# Altium schematic symbol library Silicon Labs.SchLib: 10 symbols
Pins are listed as number, name and electrical type; pins without a type are passive.

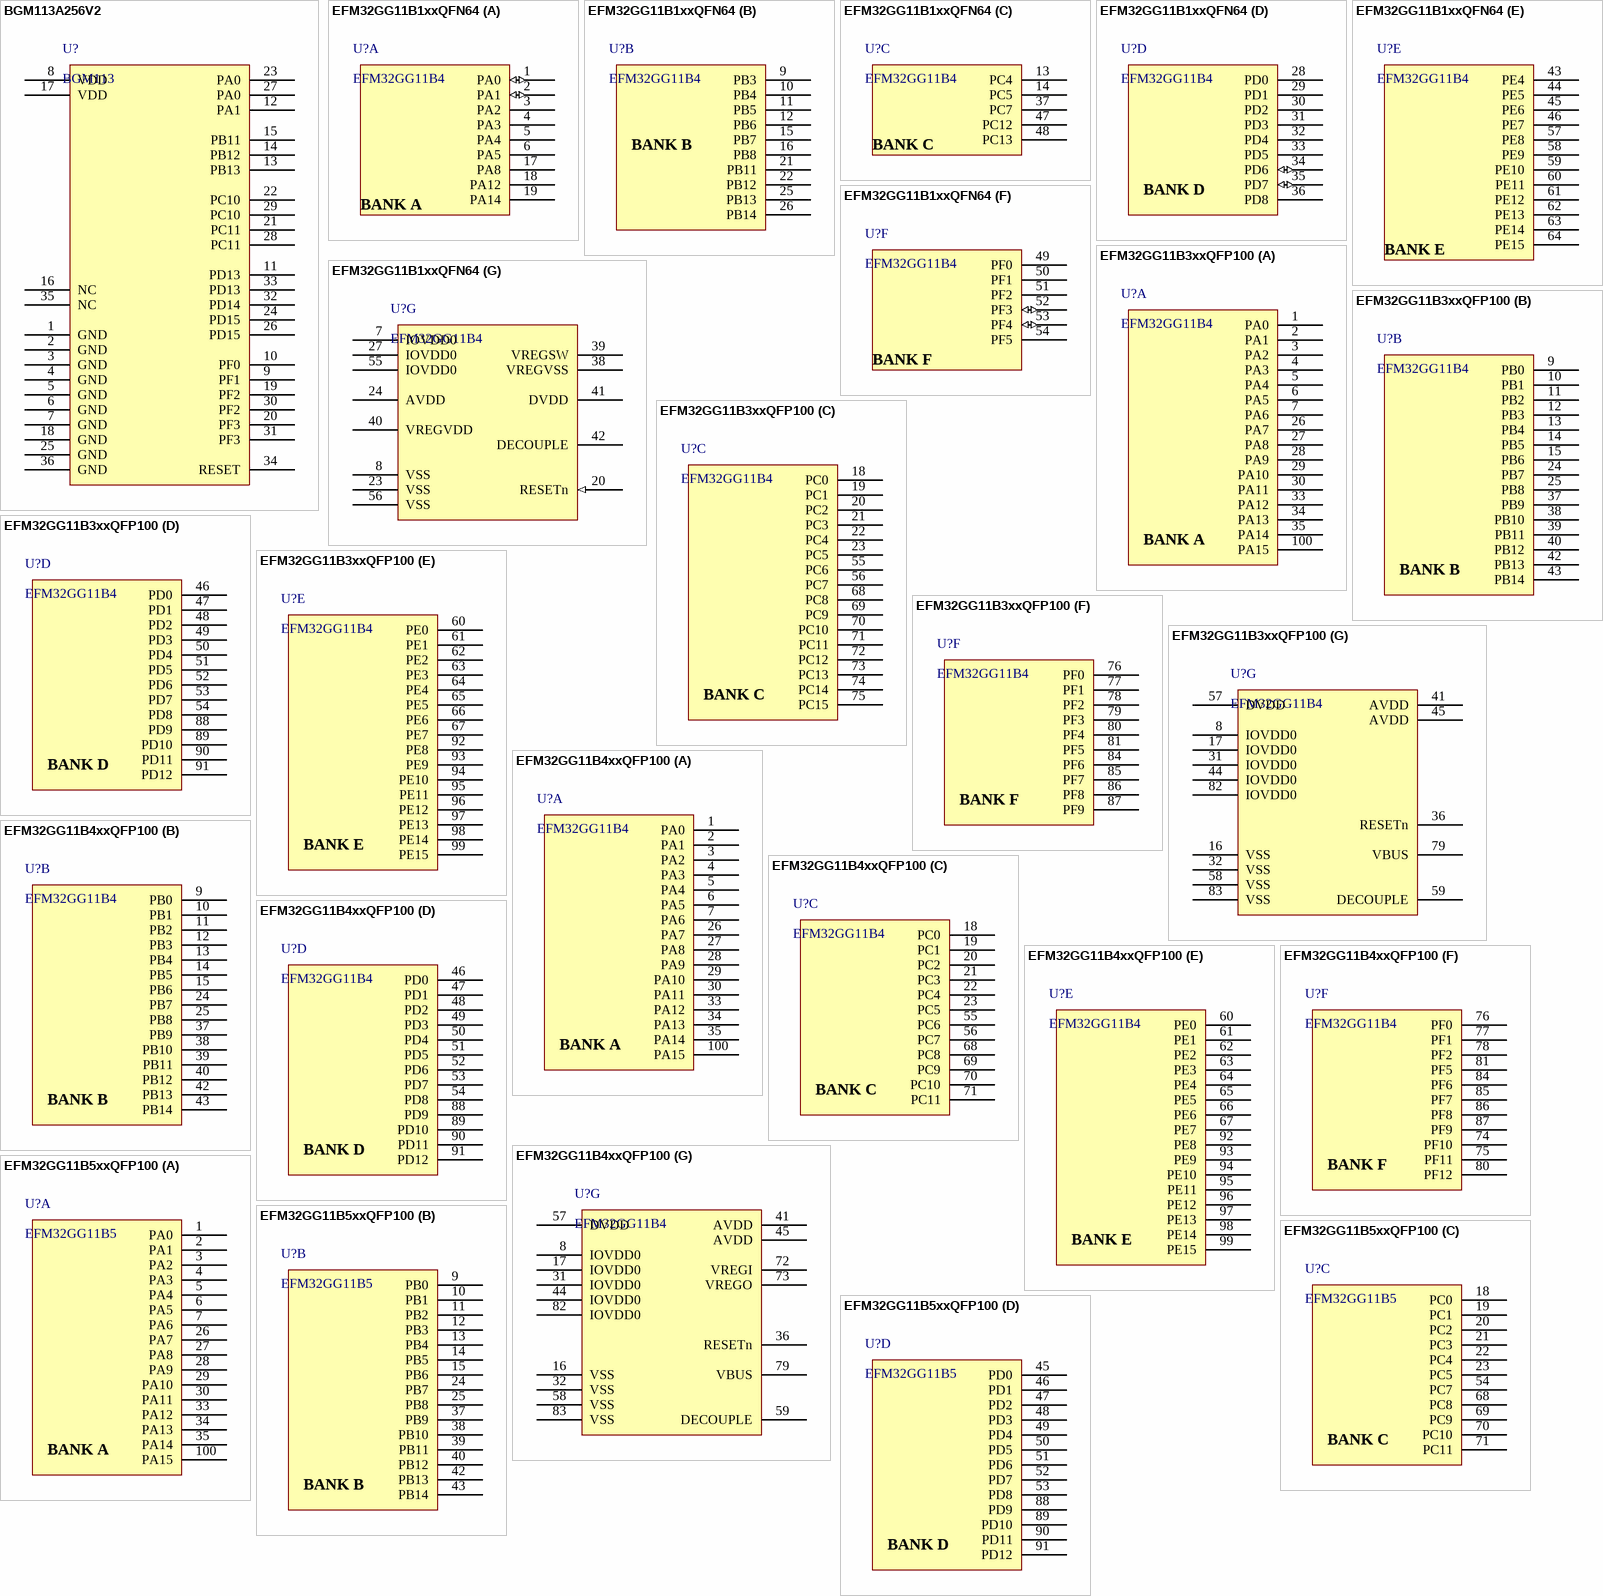
[diagram p0: symbols BGM113A256V2 to EFM32GG11B5xxQFP100]

## BGM113A256V2
designator U?, comment BGM113
pins: 1 GND, 2 GND, 3 GND, 4 GND, 5 GND, 6 GND, 7 GND, 8 VDD, 9 PF1, 10 PF0, 11 PD13, 12 PA1, 13 PB13, 14 PB12, 15 PB11, 16 NC, 17 VDD, 18 GND, 19 PF2, 20 PF3, 21 PC11, 22 PC10, 23 PA0, 24 PD15, 25 GND, 26 PD15, 27 PA0, 28 PC11, 29 PC10, 30 PF2, 31 PF3, 32 PD14, 33 PD13, 34 RESET, 35 NC, 36 GND

## EFM32GG11B1xxQFN64
designator U?, comment EFM32GG11B4
part A pins: 1 PA0 (io), 2 PA1 (io), 3 PA2, 4 PA3, 5 PA4, 6 PA5, 17 PA8, 18 PA12, 19 PA14
part B pins: 9 PB3, 10 PB4, 11 PB5, 12 PB6, 15 PB7, 16 PB8, 21 PB11, 22 PB12, 25 PB13, 26 PB14
part C pins: 13 PC4, 14 PC5, 37 PC7, 47 PC12, 48 PC13
part D pins: 28 PD0, 29 PD1, 30 PD2, 31 PD3, 32 PD4, 33 PD5, 34 PD6 (io), 35 PD7 (io), 36 PD8
part E pins: 43 PE4, 44 PE5, 45 PE6, 46 PE7, 57 PE8, 58 PE9, 59 PE10, 60 PE11, 61 PE12, 62 PE13, 63 PE14, 64 PE15
part F pins: 49 PF0, 50 PF1, 51 PF2, 52 PF3 (io), 53 PF4 (io), 54 PF5
part G pins: 7 IOVDD0, 8 VSS, 20 RESETn (in), 23 VSS, 24 AVDD, 27 IOVDD0, 38 VREGVSS, 39 VREGSW, 40 VREGVDD, 41 DVDD, 42 DECOUPLE, 55 IOVDD0, 56 VSS
part A text: BANK A
part B text: BANK B
part C text: BANK C
part D text: BANK D
part E text: BANK E
part F text: BANK F

## EFM32GG11B3xxQFP100
designator U?, comment EFM32GG11B4
part A pins: 1 PA0, 2 PA1, 3 PA2, 4 PA3, 5 PA4, 6 PA5, 7 PA6, 26 PA7, 27 PA8, 28 PA9, 29 PA10, 30 PA11, 33 PA12, 34 PA13, 35 PA14, 100 PA15
part B pins: 9 PB0, 10 PB1, 11 PB2, 12 PB3, 13 PB4, 14 PB5, 15 PB6, 24 PB7, 25 PB8, 37 PB9, 38 PB10, 39 PB11, 40 PB12, 42 PB13, 43 PB14
part C pins: 18 PC0, 19 PC1, 20 PC2, 21 PC3, 22 PC4, 23 PC5, 55 PC6, 56 PC7, 68 PC8, 69 PC9, 70 PC10, 71 PC11, 72 PC12, 73 PC13, 74 PC14, 75 PC15
part D pins: 46 PD0, 47 PD1, 48 PD2, 49 PD3, 50 PD4, 51 PD5, 52 PD6, 53 PD7, 54 PD8, 88 PD9, 89 PD10, 90 PD11, 91 PD12
part E pins: 60 PE0, 61 PE1, 62 PE2, 63 PE3, 64 PE4, 65 PE5, 66 PE6, 67 PE7, 92 PE8, 93 PE9, 94 PE10, 95 PE11, 96 PE12, 97 PE13, 98 PE14, 99 PE15
part F pins: 76 PF0, 77 PF1, 78 PF2, 79 PF3, 80 PF4, 81 PF5, 84 PF6, 85 PF7, 86 PF8, 87 PF9
part G pins: 8 IOVDD0, 16 VSS, 17 IOVDD0, 31 IOVDD0, 32 VSS, 36 RESETn, 41 AVDD, 44 IOVDD0, 45 AVDD, 57 DVDD, 58 VSS, 59 DECOUPLE, 79 VBUS, 82 IOVDD0, 83 VSS
part A text: BANK A
part B text: BANK B
part C text: BANK C
part D text: BANK D
part E text: BANK E
part F text: BANK F

## EFM32GG11B4xxQFP100
designator U?, comment EFM32GG11B4
part A pins: 1 PA0, 2 PA1, 3 PA2, 4 PA3, 5 PA4, 6 PA5, 7 PA6, 26 PA7, 27 PA8, 28 PA9, 29 PA10, 30 PA11, 33 PA12, 34 PA13, 35 PA14, 100 PA15
part B pins: 9 PB0, 10 PB1, 11 PB2, 12 PB3, 13 PB4, 14 PB5, 15 PB6, 24 PB7, 25 PB8, 37 PB9, 38 PB10, 39 PB11, 40 PB12, 42 PB13, 43 PB14
part C pins: 18 PC0, 19 PC1, 20 PC2, 21 PC3, 22 PC4, 23 PC5, 55 PC6, 56 PC7, 68 PC8, 69 PC9, 70 PC10, 71 PC11
part D pins: 46 PD0, 47 PD1, 48 PD2, 49 PD3, 50 PD4, 51 PD5, 52 PD6, 53 PD7, 54 PD8, 88 PD9, 89 PD10, 90 PD11, 91 PD12
part E pins: 60 PE0, 61 PE1, 62 PE2, 63 PE3, 64 PE4, 65 PE5, 66 PE6, 67 PE7, 92 PE8, 93 PE9, 94 PE10, 95 PE11, 96 PE12, 97 PE13, 98 PE14, 99 PE15
part F pins: 74 PF10, 75 PF11, 76 PF0, 77 PF1, 78 PF2, 80 PF12, 81 PF5, 84 PF6, 85 PF7, 86 PF8, 87 PF9
part G pins: 8 IOVDD0, 16 VSS, 17 IOVDD0, 31 IOVDD0, 32 VSS, 36 RESETn, 41 AVDD, 44 IOVDD0, 45 AVDD, 57 DVDD, 58 VSS, 59 DECOUPLE, 72 VREGI, 73 VREGO, 79 VBUS, 82 IOVDD0, 83 VSS
part A text: BANK A
part B text: BANK B
part C text: BANK C
part D text: BANK D
part E text: BANK E
part F text: BANK F

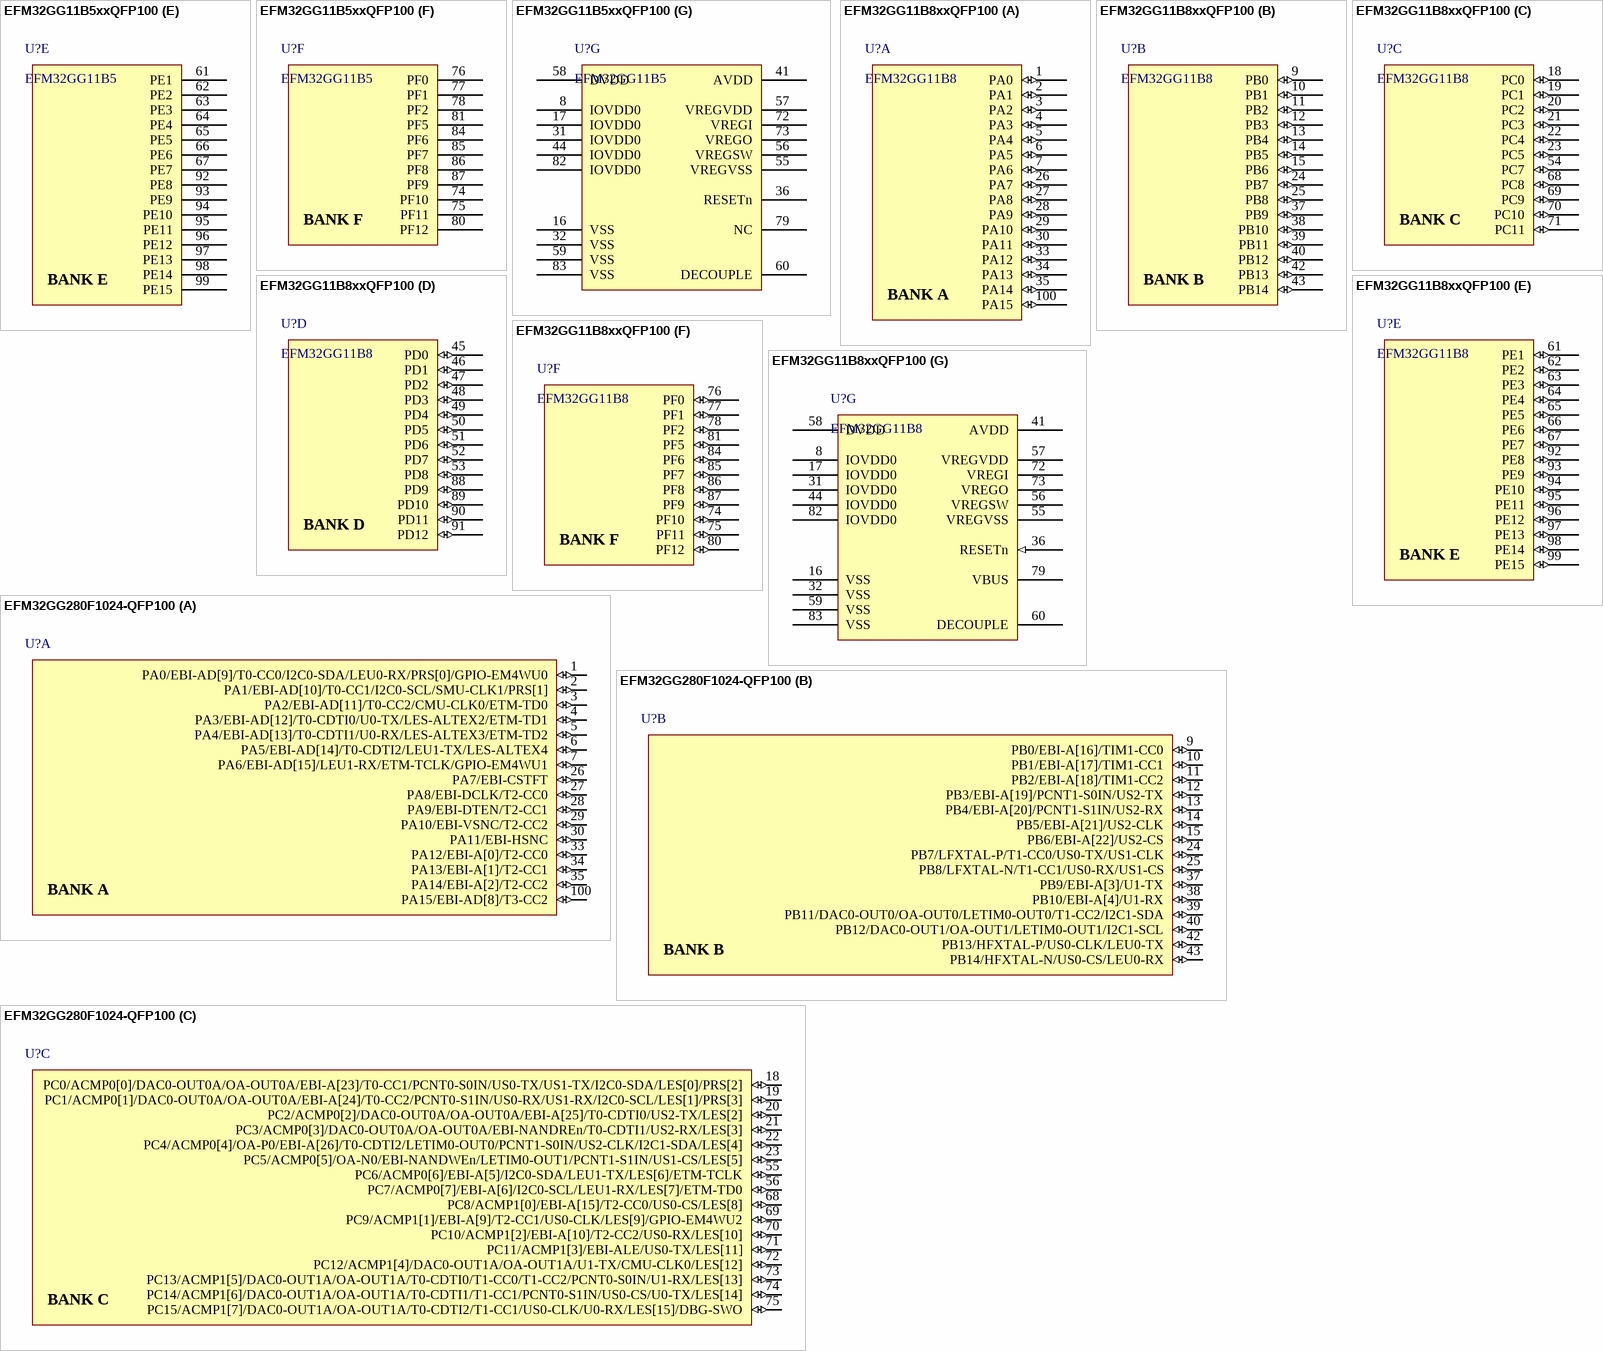
[diagram p1: symbols EFM32GG11B5xxQFP100 to EFM32GG280F1024-QFP100]

## EFM32GG11B5xxQFP100
designator U?, comment EFM32GG11B5
part A pins: 1 PA0, 2 PA1, 3 PA2, 4 PA3, 5 PA4, 6 PA5, 7 PA6, 26 PA7, 27 PA8, 28 PA9, 29 PA10, 30 PA11, 33 PA12, 34 PA13, 35 PA14, 100 PA15
part B pins: 9 PB0, 10 PB1, 11 PB2, 12 PB3, 13 PB4, 14 PB5, 15 PB6, 24 PB7, 25 PB8, 37 PB9, 38 PB10, 39 PB11, 40 PB12, 42 PB13, 43 PB14
part C pins: 18 PC0, 19 PC1, 20 PC2, 21 PC3, 22 PC4, 23 PC5, 54 PC7, 68 PC8, 69 PC9, 70 PC10, 71 PC11
part D pins: 45 PD0, 46 PD1, 47 PD2, 48 PD3, 49 PD4, 50 PD5, 51 PD6, 52 PD7, 53 PD8, 88 PD9, 89 PD10, 90 PD11, 91 PD12
part E pins: 61 PE1, 62 PE2, 63 PE3, 64 PE4, 65 PE5, 66 PE6, 67 PE7, 92 PE8, 93 PE9, 94 PE10, 95 PE11, 96 PE12, 97 PE13, 98 PE14, 99 PE15
part F pins: 74 PF10, 75 PF11, 76 PF0, 77 PF1, 78 PF2, 80 PF12, 81 PF5, 84 PF6, 85 PF7, 86 PF8, 87 PF9
part G pins: 8 IOVDD0, 16 VSS, 17 IOVDD0, 31 IOVDD0, 32 VSS, 36 RESETn, 41 AVDD, 44 IOVDD0, 55 VREGVSS, 56 VREGSW, 57 VREGVDD, 58 DVDD, 59 VSS, 60 DECOUPLE, 72 VREGI, 73 VREGO, 79 NC, 82 IOVDD0, 83 VSS
part A text: BANK A
part B text: BANK B
part C text: BANK C
part D text: BANK D
part E text: BANK E
part F text: BANK F

## EFM32GG11B8xxQFP100
designator U?, comment EFM32GG11B8
part A pins: 1 PA0 (io), 2 PA1 (io), 3 PA2 (io), 4 PA3 (io), 5 PA4 (io), 6 PA5 (io), 7 PA6 (io), 26 PA7 (io), 27 PA8 (io), 28 PA9 (io), 29 PA10 (io), 30 PA11 (io), 33 PA12 (io), 34 PA13 (io), 35 PA14 (io), 100 PA15 (io)
part B pins: 9 PB0 (io), 10 PB1 (io), 11 PB2 (io), 12 PB3 (io), 13 PB4 (io), 14 PB5 (io), 15 PB6 (io), 24 PB7 (io), 25 PB8 (io), 37 PB9 (io), 38 PB10 (io), 39 PB11 (io), 40 PB12 (io), 42 PB13 (io), 43 PB14 (io)
part C pins: 18 PC0 (io), 19 PC1 (io), 20 PC2 (io), 21 PC3 (io), 22 PC4 (io), 23 PC5 (io), 54 PC7 (io), 68 PC8 (io), 69 PC9 (io), 70 PC10 (io), 71 PC11 (io)
part D pins: 45 PD0 (io), 46 PD1 (io), 47 PD2 (io), 48 PD3 (io), 49 PD4 (io), 50 PD5 (io), 51 PD6 (io), 52 PD7 (io), 53 PD8 (io), 88 PD9 (io), 89 PD10 (io), 90 PD11 (io), 91 PD12 (io)
part E pins: 61 PE1 (io), 62 PE2 (io), 63 PE3 (io), 64 PE4 (io), 65 PE5 (io), 66 PE6 (io), 67 PE7 (io), 92 PE8 (io), 93 PE9 (io), 94 PE10 (io), 95 PE11 (io), 96 PE12 (io), 97 PE13 (io), 98 PE14 (io), 99 PE15 (io)
part F pins: 74 PF10 (io), 75 PF11 (io), 76 PF0 (io), 77 PF1 (io), 78 PF2 (io), 80 PF12 (io), 81 PF5 (io), 84 PF6 (io), 85 PF7 (io), 86 PF8 (io), 87 PF9 (io)
part G pins: 8 IOVDD0 (power), 16 VSS (power), 17 IOVDD0 (power), 31 IOVDD0 (power), 32 VSS (power), 36 RESETn (in), 41 AVDD (power), 44 IOVDD0 (power), 55 VREGVSS (power), 56 VREGSW (power), 57 VREGVDD (power), 58 DVDD (power), 59 VSS (power), 60 DECOUPLE (power), 72 VREGI (power), 73 VREGO (power), 79 VBUS (power), 82 IOVDD0 (power), 83 VSS (power)
part A text: BANK A
part B text: BANK B
part C text: BANK C
part D text: BANK D
part E text: BANK E
part F text: BANK F

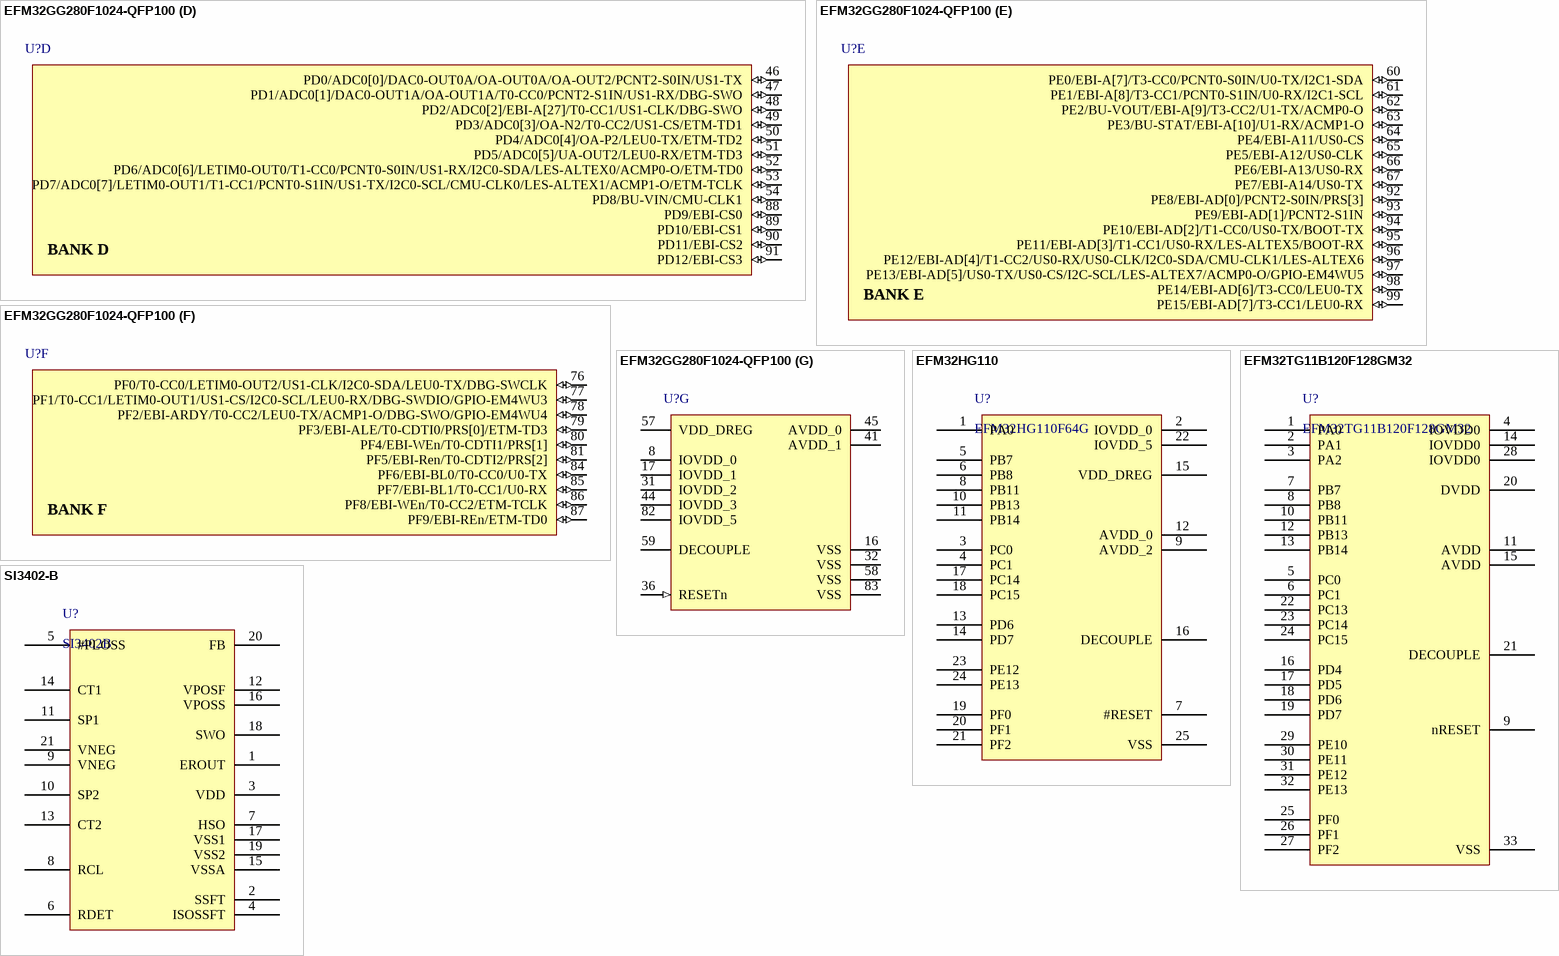
[diagram p2: symbols EFM32GG280F1024-QFP100 to SI3402-B]

## EFM32GG280F1024-QFP100
designator U?
part A pins: 1 PA0/EBI-AD[9]/T0-CC0/I2C0-SDA/LEU0-RX/PRS[0]/GPIO-EM4WU0 (io) "EBI_AD09#0/1/2, TIM0_CC0#0/1/4, LEU0_RX#4, I2C0_SDA#0, PRS_CH0#0, GPIO_EM4WU0", 2 PA1/EBI-AD[10]/T0-CC1/I2C0-SCL/SMU-CLK1/PRS[1] (io) "EBI_AD10#0/1/2, TIM0_CC1#0/1, I2C0_SCL#0, CMU_CLK1#0, PRS_CH1#0", 3 PA2/EBI-AD[11]/T0-CC2/CMU-CLK0/ETM-TD0 (io) "EBI_AD11#0/1/2, TIM0_CC2#0/1, CMU_CLK0#0, ETM_TD0#3", 4 PA3/EBI-AD[12]/T0-CDTI0/U0-TX/LES-ALTEX2/ETM-TD1 (io) "EBI_AD12#0/1/2, TIM0_CDTI0#0, U0_TX#2, LES_ALTEX2#0, ETM_TD1#3", 5 PA4/EBI-AD[13]/T0-CDTI1/U0-RX/LES-ALTEX3/ETM-TD2 (io) "EBI_AD13#0/1/2, TIM0_CDTI1#0, U0_RX#2, LES_ALTEX3#0, ETM_TD2#3", 6 PA5/EBI-AD[14]/T0-CDTI2/LEU1-TX/LES-ALTEX4 (io) "EBI_AD14#0/1/2, TIM0_CDTI2#0, LEU1_TX#1, LES_ALTEX4#0, ETM_TD3#3", 7 PA6/EBI-AD[15]/LEU1-RX/ETM-TCLK/GPIO-EM4WU1 (io) "EBI_AD15#0/1/2, LEU1_RX#1, ETM_TCLK#3, GPIO_EM4WU1", 26 PA7/EBI-CSTFT (io) "EBI_CSTFT#0/1/2", 27 PA8/EBI-DCLK/T2-CC0 (io) "EBI_DCLK#0/1/2, TIM2_CC0#0", 28 PA9/EBI-DTEN/T2-CC1 (io) "EBI_DTEN#0/1/2, TIM2_CC1#0", 29 PA10/EBI-VSNC/T2-CC2 (io) "EBI_VSNC#0/1/2, TIM2_CC2#0", 30 PA11/EBI-HSNC (io) "EBI_HSNC#0/1/2", 33 PA12/EBI-A[0]/T2-CC0 (io) "EBI_A00#0/1/2, TIM2_CC0#1", 34 PA13/EBI-A[1]/T2-CC1 (io) "EBI_A01#0/1/2, TIM2_CC1#1", 35 PA14/EBI-A[2]/T2-CC2 (io) "EBI_A02#0/1/2, TIM2_CC2#1", 100 PA15/EBI-AD[8]/T3-CC2 (io) "EBI_AD08#0/1/2, TIM3_CC2#0"
part B pins: 9 PB0/EBI-A[16]/TIM1-CC0 (io) "EBI_A16#0/1/2, TIM1_CC0#2", 10 PB1/EBI-A[17]/TIM1-CC1 (io) "EBI_A17#0/1/2, TIM1_CC1#2", 11 PB2/EBI-A[18]/TIM1-CC2 (io) "EBI_A18#0/1/2, TIM1_CC2#2", 12 PB3/EBI-A[19]/PCNT1-S0IN/US2-TX (io) "EBI_A19#0/1/2, PCNT1_S0IN#1, US2_TX#1", 13 PB4/EBI-A[20]/PCNT1-S1IN/US2-RX (io) "EBI_A20#0/1/2, PCNT1_S1IN#1, US2_RX#1", 14 PB5/EBI-A[21]/US2-CLK (io) "EBI_A21#0/1/2, US2_CLK#1", 15 PB6/EBI-A[22]/US2-CS (io) "EBI_A22#0/1/2, US2_CS#1", 24 PB7/LFXTAL-P/T1-CC0/US0-TX/US1-CLK (io) "LFXTAL_P, TIM1_CC0#3, US0_TX#4, US1_CLK#0", 25 PB8/LFXTAL-N/T1-CC1/US0-RX/US1-CS (io) "LFXTAL_N, TIM1_CC1#3, US0_RX#4, US1_CS#0", 37 PB9/EBI-A[3]/U1-TX (io) "EBI_A03#0/1/2, U1_TX#2", 38 PB10/EBI-A[4]/U1-RX (io) "EBI_A04#0/1/2, U1_RX#2", 39 PB11/DAC0-OUT0/OA-OUT0/LETIM0-OUT0/T1-CC2/I2C1-SDA (io) "DAC0_OUT0#0/OPAMP_OUT0, TIM1_CC2#3, LETIM0_OUT0#1, I2C1_SDA#1", 40 PB12/DAC0-OUT1/OA-OUT1/LETIM0-OUT1/I2C1-SCL (io) "DAC0_OUT1#0/OPAMP_OUT1, LETIM0_OUT1#1, I2C1_SCL#1", 42 PB13/HFXTAL-P/US0-CLK/LEU0-TX (io) "HFXTAL_P, US0_CLK#4/5, LEU0_TX#1", 43 PB14/HFXTAL-N/US0-CS/LEU0-RX (io) "HFXTAL_N, US0_CS#4/5, LEU0_RX#1"
part C pins: 18 PC0/ACMP0[0]/DAC0-OUT0A/OA-OUT0A/EBI-A[23]/T0-CC1/PCNT0-S0IN/US0-TX/US1-TX/I2C0-SDA/LES[0]/PRS[2] (io) "DAC0_OUT0ALT#0/OPAMP_OUT0ALT, ACMP0_CH0, EBI_A23#0/1/2, TIM0_CC1#4, PCNT0_S0IN#2, US0_TX#5, US1_TX#0, I2C0_SDA#4, LES_CH0#0, PRS_CH2#0", 19 PC1/ACMP0[1]/DAC0-OUT0A/OA-OUT0A/EBI-A[24]/T0-CC2/PCNT0-S1IN/US0-RX/US1-RX/I2C0-SCL/LES[1]/PRS[3] (io) "DAC0_OUT0ALT#1/OPAMP_OUT0ALT, ACMP0_CH1, EBI_A24#0/1/2, TIM0_CC2#4, PCNT0_S1IN#2, US0_RX#5, US1_RX#0, I2C0_SCL#4, LES_CH1#0, PRS_CH3#0", 20 PC2/ACMP0[2]/DAC0-OUT0A/OA-OUT0A/EBI-A[25]/T0-CDTI0/US2-TX/LES[2] (io) "DAC0_OUT0ALT#2/OPAMP_OUT0ALT, ACMP0_CH2, EBI_A25#0/1/2, TIM0_CDTI0#4, US2_TX#0, LES_CH2#0", 21 PC3/ACMP0[3]/DAC0-OUT0A/OA-OUT0A/EBI-NANDREn/T0-CDTI1/US2-RX/LES[3] (io) "DAC0_OUT0ALT#3/OPAMP_OUT0ALT, ACMP0_CH3, EBI_NANDREn#0/1/2, TIM0_CDTI1#4, US2_RX#0, LES_CH3#0", 22 PC4/ACMP0[4]/OA-P0/EBI-A[26]/T0-CDTI2/LETIM0-OUT0/PCNT1-S0IN/US2-CLK/I2C1-SDA/LES[4] (io) "DAC0_P0#0/OPAMP_P0, ACMP0_CH4, EBI_A26#0/1/2, TIM0_CDTI2#4, LETIM0_OUT0#3, PCNT1_S0IN#0, US2_CLK#0, I2C1_SDA#0, LES_CH4#0", 23 PC5/ACMP0[5]/OA-N0/EBI-NANDWEn/LETIM0-OUT1/PCNT1-S1IN/US1-CS/LES[5] (io) "DAC0_N0#0/OPAMP_N0, ACMP0_CH5, EBI_NANDWEn#0/1/2, LETIM0_OUT1#3, PCNT1_S1IN#0, US2_CS#0, I2C1_SCL#0, LES_CH5#0", 55 PC6/ACMP0[6]/EBI-A[5]/I2C0-SDA/LEU1-TX/LES[6]/ETM-TCLK (io) "ACMP0_CH6, EBI_A05#0/1/2, LEU1_TX#0, I2C0_SDA#2, LES_CH6#0, ETM_TCLK#2", 56 PC7/ACMP0[7]/EBI-A[6]/I2C0-SCL/LEU1-RX/LES[7]/ETM-TD0 (io) "ACMP0_CH7, EBI_A06#0/1/2, LEU1_RX#0, I2C0_SCL#2, LES_CH7#0, ETM_TD0#2", 68 PC8/ACMP1[0]/EBI-A[15]/T2-CC0/US0-CS/LES[8] (io) "ACMP1_CH0, EBI_A15#0/1/2, TIM2_CC0#2, US0_CS#2, LES_CH8#0", 69 PC9/ACMP1[1]/EBI-A[9]/T2-CC1/US0-CLK/LES[9]/GPIO-EM4WU2 (io) "ACMP1_CH1, EBI_A09#1/2, TIM2_CC1#2, US0_CLK#2, LES_CH9#0, GPIO_EM4WU2", 70 PC10/ACMP1[2]/EBI-A[10]/T2-CC2/US0-RX/LES[10] (io) "ACMP1_CH2, EBI_A10#1/2, TIM2_CC2#2, US0_RX#2, LES_CH10#0", 71 PC11/ACMP1[3]/EBI-ALE/US0-TX/LES[11] (io) "ACMP1_CH3, EBI_ALE#1/2, US0_TX#2, LES_CH11#0", 72 PC12/ACMP1[4]/DAC0-OUT1A/OA-OUT1A/U1-TX/CMU-CLK0/LES[12] (io) "DAC0_OUT1ALT#0/OPAMP_OUT1ALT, ACMP1_CH4, U1_TX#0, CMU_CLK0#1, LES_CH12#0", 73 PC13/ACMP1[5]/DAC0-OUT1A/OA-OUT1A/T0-CDTI0/T1-CC0/T1-CC2/PCNT0-S0IN/U1-RX/LES[13] (io) "DAC0_OUT1ALT#1/OPAMP_OUT1ALT, ACMP1_CH5, TIM0_CDTI0#1/3, TIM1_CC0#0, TIM1_CC2#4, PCNT0_S0IN#0, U1_RX#0, LES_CH13#0", 74 PC14/ACMP1[6]/DAC0-OUT1A/OA-OUT1A/T0-CDTI1/T1-CC1/PCNT0-S1IN/US0-CS/U0-TX/LES[14] (io) "DAC0_OUT1ALT#2/OPAMP_OUT1ALT, ACMP1_CH6, TIM0_CDTI1#1/3, TIM1_CC1#0, PCNT0_S1IN#0, US0_CS#3, U0_TX#3, LES_CH14#0", 75 PC15/ACMP1[7]/DAC0-OUT1A/OA-OUT1A/T0-CDTI2/T1-CC1/US0-CLK/U0-RX/LES[15]/DBG-SWO (io) "DAC0_OUT1ALT#3/OPAMP_OUT1ALT, ACMP1_CH7, TIM0_CDTI2#1/3, TIM1_CC2#0, US0_CLK#3, U0_RX#3, LES_CH15#0, DBG_SWO#1"
part D pins: 46 PD0/ADC0[0]/DAC0-OUT0A/OA-OUT0A/OA-OUT2/PCNT2-S0IN/US1-TX (io) "ADC0_CH0, DAC0_OUT0ALT#4/OPAMP_OUT0ALT, DAC0_OUT2#1/OPAMP_OUT2, PCNT2_S0IN#0, US1_TX#1", 47 PD1/ADC0[1]/DAC0-OUT1A/OA-OUT1A/T0-CC0/PCNT2-S1IN/US1-RX/DBG-SWO (io) "ADC0_CH1, DAC0_OUT1ALT#4/OPAMP_OUT1ALT, TIM0_CC0#3, PCNT2_S1IN#0, US1_RX#1, DBG_SWO#2", 48 PD2/ADC0[2]/EBI-A[27]/T0-CC1/US1-CLK/DBG-SWO (io) "ADC0_CH2, EBI_A27#0/1/2, TIM0_CC1#3, US1_CLK#1, DBG_SWO#3", 49 PD3/ADC0[3]/OA-N2/T0-CC2/US1-CS/ETM-TD1 (io) "ADC0_CH3, DAC0_N2#0/OPAMP_N2, TIM0_CC2#3, US1_CS#1, ETM_TD1#0/2", 50 PD4/ADC0[4]/OA-P2/LEU0-TX/ETM-TD2 (io) "ADC0_CH4, DAC0_P2#0/OPAMP_P2, LEU0_TX#0, ETM_TD2#0/2", 51 PD5/ADC0[5]/UA-OUT2/LEU0-RX/ETM-TD3 (io) "ADC0_CH5, DAC0_OUT2#0/OPAMP_OUT2, LEU0_RX#0, ETM_TD3#0/2", 52 PD6/ADC0[6]/LETIM0-OUT0/T1-CC0/PCNT0-S0IN/US1-RX/I2C0-SDA/LES-ALTEX0/ACMP0-O/ETM-TD0 (io) "ADC0_CH6, DAC0_P1#0/OPAMP_P1, TIM1_CC0#4, LETIM0_OUT0#0, PCNT0_S0IN#3, US1_RX#2, I2C0_SDA#1, LES_ALTEX0#0, ACMP0_O#2, ETM_TD0#0", 53 PD7/ADC0[7]/LETIM0-OUT1/T1-CC1/PCNT0-S1IN/US1-TX/I2C0-SCL/CMU-CLK0/LES-ALTEX1/ACMP1-O/ETM-TCLK (io) "ADC0_CH7, DAC0_N1#0/OPAMP_N1, TIM1_CC1#4, LETIM0_OUT1#0, PCNT0_S1IN#3, US1_TX#2, I2C0_SCL#1, CMU_CLK0#2, LES_ALTEX1#0, ACMP1_O#2, ETM_TCLK#0", 54 PD8/BU-VIN/CMU-CLK1 (io) "BU_VIN, CMU_CLK1#1", 88 PD9/EBI-CS0 (io) "EBI_CS0#0/1/2", 89 PD10/EBI-CS1 (io) "EBI_CS1#0/1/2", 90 PD11/EBI-CS2 (io) "EBI_CS2#0/1/2", 91 PD12/EBI-CS3 (io) "EBI_CS3#0/1/2"
part E pins: 60 PE0/EBI-A[7]/T3-CC0/PCNT0-S0IN/U0-TX/I2C1-SDA (io) "EBI_A07#0/1/2, TIM3_CC0#1, PCNT0_S0IN#1, U0_TX#1, I2C1_SDA#2", 61 PE1/EBI-A[8]/T3-CC1/PCNT0-S1IN/U0-RX/I2C1-SCL (io) "EBI_A08#0/1/2, TIM3_CC1#1, PCNT0_S1IN#1, U0_RX#1, I2C1_SCL#2", 62 PE2/BU-VOUT/EBI-A[9]/T3-CC2/U1-TX/ACMP0-O (io) "BU_VOUT, EBI_A09#0, TIM3_CC2#1, U1_TX#3, ACMP0_O#1", 63 PE3/BU-STAT/EBI-A[10]/U1-RX/ACMP1-O (io) "BU_STAT, EBI_A10#0, U1_RX#3, ACMP1_O#1", 64 PE4/EBI-A11/US0-CS (io) "EBI_A11#0/1/2, US0_CS#1", 65 PE5/EBI-A12/US0-CLK (io) "EBI_A12#0/1/2, US0_CLK#1", 66 PE6/EBI-A13/US0-RX (io) "EBI_A13#0/1/2, US0_RX#1", 67 PE7/EBI-A14/US0-TX (io) "EBI_A14#0/1/2, US0_TX#1", 92 PE8/EBI-AD[0]/PCNT2-S0IN/PRS[3] (io) "EBI_AD00#0/1/2, PCNT2_S0IN#1, PRS_CH3#1", 93 PE9/EBI-AD[1]/PCNT2-S1IN (io) "EBI_AD01#0/1/2, PCNT2_S1IN#1", 94 PE10/EBI-AD[2]/T1-CC0/US0-TX/BOOT-TX (io) "EBI_AD02#0/1/2, TIM1_CC0#1, US0_TX#0, BOOTLOADER_TX", 95 PE11/EBI-AD[3]/T1-CC1/US0-RX/LES-ALTEX5/BOOT-RX (io) "EBI_AD03#0/1/2, TIM1_CC1#1, US0_RX#0, LES_ALTEX5#0, BOOTLOADER_RX", 96 PE12/EBI-AD[4]/T1-CC2/US0-RX/US0-CLK/I2C0-SDA/CMU-CLK1/LES-ALTEX6 (io) "EBI_AD04#0/1/2, TIM1_CC2#1, US0_RX#3, US0_CLK#0, I2C0_SDA#6, CMU_CLK1#2, LES_ALTEX6#0", 97 PE13/EBI-AD[5]/US0-TX/US0-CS/I2C-SCL/LES-ALTEX7/ACMP0-O/GPIO-EM4WU5 (io) "EBI_AD05#0/1/2, US0_TX#3, US0_CS#0, I2C0_SCL#6, LES_ALTEX7#0, ACMP0_O#0, GPIO_EM4WU5", 98 PE14/EBI-AD[6]/T3-CC0/LEU0-TX (io) "EBI_AD06#0/1/2, TIM3_CC0#0, LEU0_TX#2", 99 PE15/EBI-AD[7]/T3-CC1/LEU0-RX (io) "EBI_AD07#0/1/2, TIM3_CC1#0, LEU0_RX#2"
part F pins: 76 PF0/T0-CC0/LETIM0-OUT2/US1-CLK/I2C0-SDA/LEU0-TX/DBG-SWCLK (io) "TIM0_CC0#5, LETIM0_OUT0#2, US1_CLK#2, LEU0_TX#3, I2C0_SDA#5, DBG_SWCLK#0/1/2/3", 77 PF1/T0-CC1/LETIM0-OUT1/US1-CS/I2C0-SCL/LEU0-RX/DBG-SWDIO/GPIO-EM4WU3 (io) "TIM0_CC1#5, LETIM0_OUT1#2, US1_CS#2, LEU0_RX#3, I2C0_SCL#5, DBG_SWDIO#0/1/2/3, GPIO_EM4WU3", 78 PF2/EBI-ARDY/T0-CC2/LEU0-TX/ACMP1-O/DBG-SWO/GPIO-EM4WU4 (io) "EBI_ARDY#0/1/2, TIM0_CC2#5, LEU0_TX#4, ACMP1_O#0, DBG_SWO#0, GPIO_EM4WU4", 79 PF3/EBI-ALE/T0-CDTI0/PRS[0]/ETM-TD3 (io) "EBI_ALE#0, TIM0_CDTI0#2/5, PRS_CH0#1, ETM_TD3#1", 80 PF4/EBI-WEn/T0-CDTI1/PRS[1] (io) "EBI_WEn#0/2, TIM0_CDTI1#2/5, PRS_CH1#1", 81 PF5/EBI-Ren/T0-CDTI2/PRS[2] (io) "EBI_REn#0/2, TIM0_CDTI2#2/5, PRS_CH2#1", 84 PF6/EBI-BL0/T0-CC0/U0-TX (io) "EBI_BL0#0/1/2, TIM0_CC0#2, U0_TX#0", 85 PF7/EBI-BL1/T0-CC1/U0-RX (io) "EBI_BL1#0/1/2, TIM0_CC1#2, U0_RX#0", 86 PF8/EBI-WEn/T0-CC2/ETM-TCLK (io) "EBI_WEn#1, TIM0_CC2#2, ETM_TCLK#1", 87 PF9/EBI-REn/ETM-TD0 (io) "EBI_REn#1, ETM_TD0#1"
part G pins: 8 IOVDD_0 (power) "Digital IO power supply 0.", 16 VSS (power) "Ground", 17 IOVDD_1 (power) "Digital IO power supply 1.", 31 IOVDD_2 (power) "Digital IO power supply 2.", 32 VSS (power) "Ground", 36 RESETn (in) "Reset input.Active low, with internal pull-up.", 41 AVDD_1 (power) "Analog power supply 1 .", 44 IOVDD_3 (power) "Digital IO power supply 3.", 45 AVDD_0 (power) "Analog power supply 0.", 57 VDD_DREG (power) "Power supply for on-chip voltage regulator.", 58 VSS (power) "Ground", 59 DECOUPLE "Decouple output for on-chip voltage regulator. An external capacitance of size CDECOUPLE is required at this pin", 82 IOVDD_5 (power) "Digital IO power supply 5.", 83 VSS (power) "Ground"
part A text: BANK A
part B text: BANK B
part C text: BANK C
part D text: BANK D
part E text: BANK E
part F text: BANK F

## EFM32HG110
designator U?, comment EFM32HG110F64G
pins: 1 PA0, 2 IOVDD_0, 3 PC0, 4 PC1, 5 PB7, 6 PB8, 7 #RESET, 8 PB11, 9 AVDD_2, 10 PB13, 11 PB14, 12 AVDD_0, 13 PD6, 14 PD7, 15 VDD_DREG, 16 DECOUPLE, 17 PC14, 18 PC15, 19 PF0, 20 PF1, 21 PF2, 22 IOVDD_5, 23 PE12, 24 PE13, 25 VSS

## EFM32TG11B120F128GM32
designator U?
pins: 1 PA0, 2 PA1, 3 PA2, 4 IOVDD0, 5 PC0, 6 PC1, 7 PB7, 8 PB8, 9 nRESET, 10 PB11, 11 AVDD, 12 PB13, 13 PB14, 14 IOVDD0, 15 AVDD, 16 PD4, 17 PD5, 18 PD6, 19 PD7, 20 DVDD, 21 DECOUPLE, 22 PC13, 23 PC14, 24 PC15, 25 PF0, 26 PF1, 27 PF2, 28 IOVDD0, 29 PE10, 30 PE11, 31 PE12, 32 PE13, 33 VSS

## SI3402-B
designator U?, comment SI3402B
pins: 1 EROUT, 2 SSFT, 3 VDD, 4 ISOSSFT, 5 #PLOSS, 6 RDET, 7 HSO, 8 RCL, 9 VNEG, 10 SP2, 11 SP1, 12 VPOSF, 13 CT2, 14 CT1, 15 VSSA, 16 VPOSS, 17 VSS1, 18 SWO, 19 VSS2, 20 FB, 21 VNEG